# Altium footprint library pir.PcbLib: 22 footprints (part 1 of 2)
Each footprint in its own frame and in the unit in brackets; x right, y up, seen from the top. Pads: shape width x height; smd on the part's side, far side on the other; paste and mask are expansions set on the pad; w line width, h text height; cw(c..) or ccw(c..) is an arc to the next point about the centre after c.
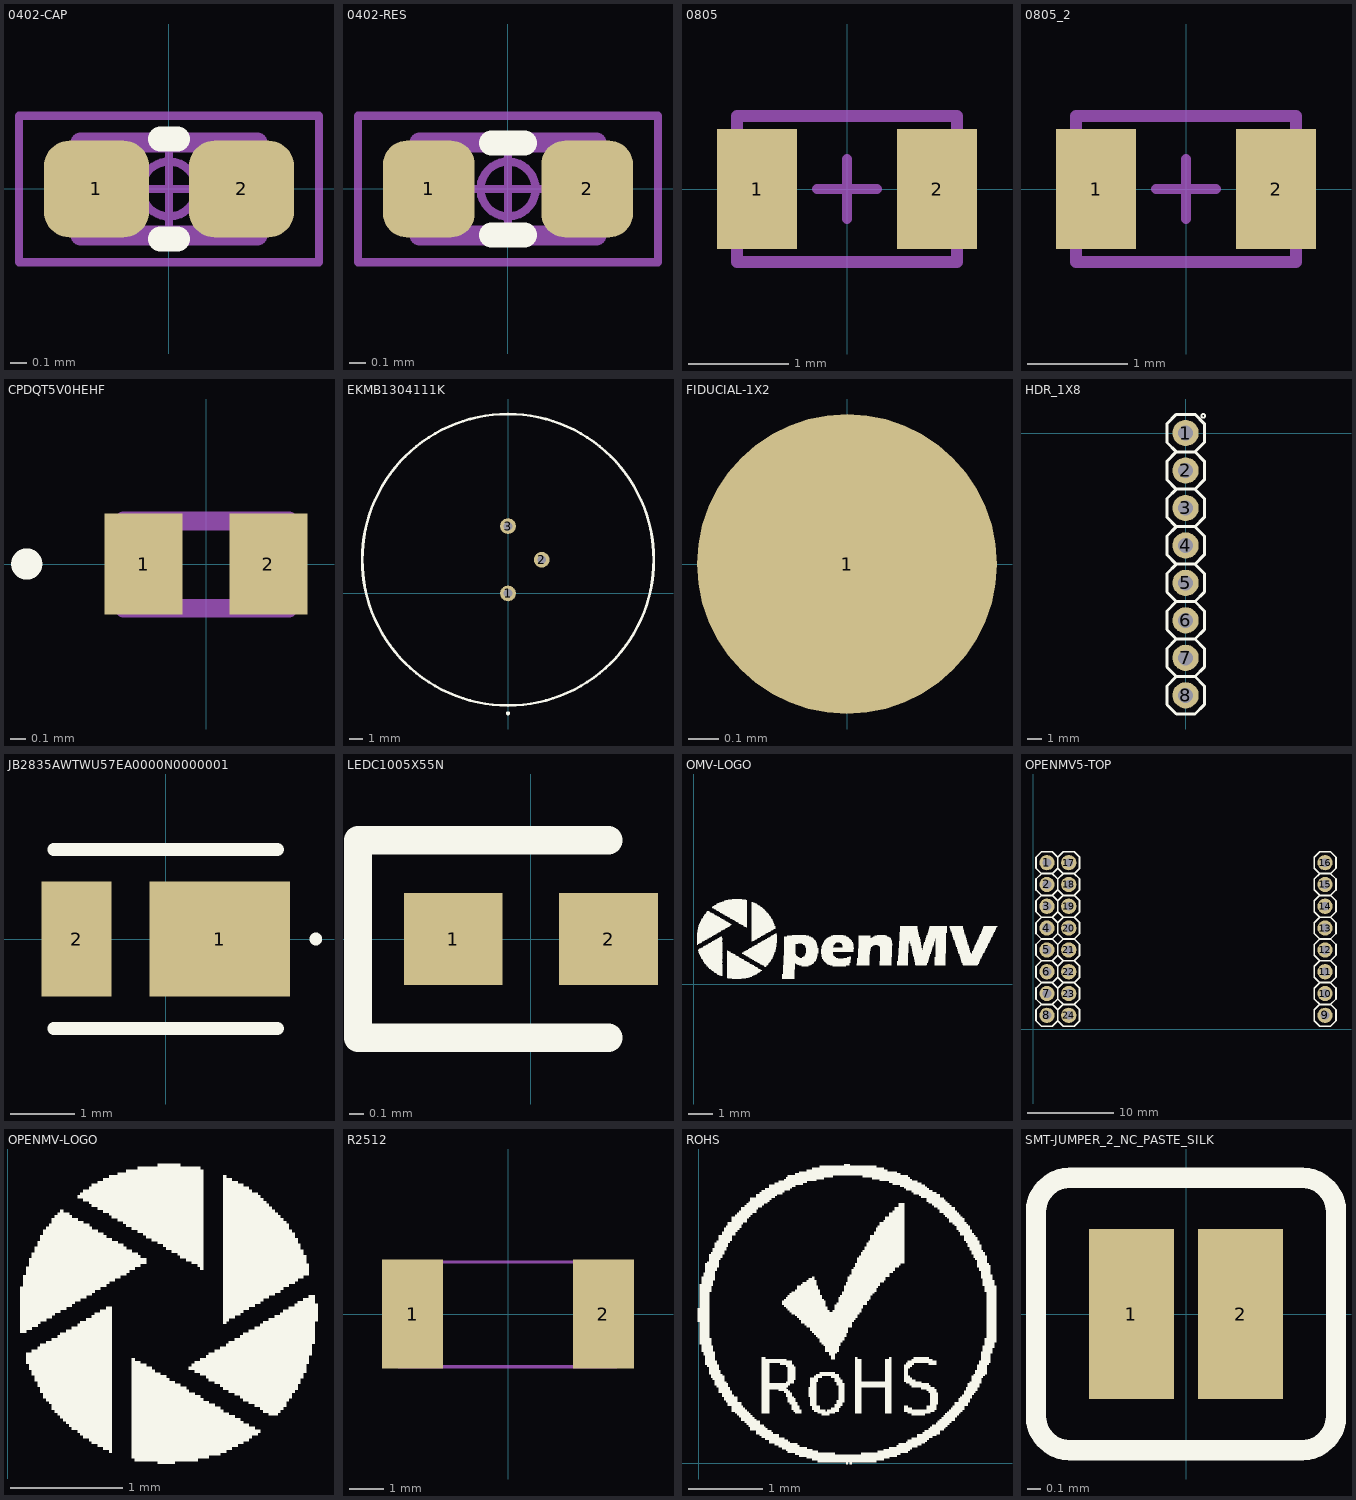
[diagram p0: the footprints below, top view; thin cyan lines are the x and y axes]

## 0402-CAP [mm] "Chip Capacitor, 2-Leads, Body  0402 (in) 1005 (mm), IPC Medium Density"
height 0.5
pads (2):
  rrect52% 0.63x0.58 smd mask+0.05: 1(-0.435,0) 2(0.435,0)
Top Overlay:
  lines w0.15: -0.05,-0.3 0.05,-0.3 ; -0.05,0.3 0.05,0.3
Mechanical 13:
  lines w0.12: -0.53,-0.28 0.53,-0.28 0.53,0.28 -0.53,0.28 -0.53,-0.28
  text ".designator" at -0.432,-0.178 h0.3
Mechanical 15:
  circle w0.05: c0,0 r0.165
  lines w0.05: -0.22,0 0.22,0 ; 0,-0.22 0,0.22 ; -0.9,-0.44 0.9,-0.44 0.9,0.44 -0.9,0.44 -0.9,-0.44
3D body "CAP-0402.stp": height 0.5, standoff 0, extent -0.5,-0.25 0.5,0.25

## 0402-RES [mm] "Chip Resistor, 2-Leads, Body  0402 (in) 1005 (mm), IPC Medium Density"
height 0.5
pads (2):
  rrect51% 0.55x0.58 smd mask+0.05: 1(-0.475,0) 2(0.475,0)
Top Overlay:
  lines w0.15: -0.1,-0.275 0.1,-0.275 ; -0.1,0.275 0.1,0.275
Mechanical 13:
  lines w0.12: -0.53,-0.28 0.53,-0.28 0.53,0.28 -0.53,0.28 -0.53,-0.28
  text ".designator" at -0.432,-0.152 h0.3
Mechanical 15:
  circle w0.05: c0,0 r0.165
  lines w0.05: -0.22,0 0.22,0 ; 0,-0.22 0,0.22 ; -0.9,-0.44 0.9,-0.44 0.9,0.44 -0.9,0.44 -0.9,-0.44
3D body "RES-0402.stp": height 0.34, standoff 0, extent -0.5,-0.25 0.5,0.25

## 0805 [mil] "0805"
pads (2):
  rect 31.5x47.24 smd: 1(-35.43,0) 2(35.43,0)
Mechanical 13:
  lines w3.94: -11.81,0 0,0 ; 0,-11.81 0,0 ; 0,11.81 0,0 ; 11.81,0 0,0
  lines w4.72: -43.31,-28.74 43.31,-28.74 43.31,28.74 -43.31,28.74 -43.31,-28.74
  text ".designator" at -39.36,-24.6 h11.81
3D body "CAP-0805.stp": height 49.21, standoff 0, extent -39.36,-24.6 39.38,24.61

## 0805_2 [mil]
pads (2):
  rect 31.5x47.24 smd: 1(-35.43,0) 2(35.43,0)
Mechanical 13:
  lines w3.94: -11.81,0 0,0 ; 0,-11.81 0,0 ; 0,11.81 0,0 ; 11.81,0 0,0
  lines w4.72: -43.31,-28.74 -43.31,28.74 43.31,28.74 43.31,-28.74 -43.31,-28.74
  text ".designator" at -39.36,-24.6 h11.81
3D body "CAP-0805.stp": height 49.21, standoff 0, extent -39.36,-24.6 39.38,24.61

## CPDQT5V0HEHF [mm] "CPDQT5V0HEHF"
pads (2):
  rect 0.5x0.65 smd: 1(-0.4,0) 2(0.4,0)
Top Overlay:
  lines w0.1: -1.2,0 ccw(c-1.15,0) -1.1,0 ccw(c-1.15,0) -1.2,0
Mechanical 13:
  lines w0.12: -0.529,-0.284 0.531,-0.284 0.531,0.276 -0.529,0.276 -0.529,-0.284
  text ".designator" at -0.43,-0.157 h0.3
3D body "RES-0402.stp": height 0.34, standoff 0, extent -0.498,-0.254 0.502,0.246

## EKMB1304111K [mm] "EKMB1304111K"
pads (3):
  round 1.192 hole 0.65: 1(0,0) 2(2.54,2.54) 3(0,5.08)
Top Overlay:
  lines w0.2: 0,-9.1 cw(c0,-9.05) 0,-9 ; 0,-9.1 ccw(c0,-9.05) 0,-9 ; 0,-9.1 cw(c0,-9.05) 0,-9 ; -11,2.54 ccw(c0,2.54) 11,2.54 ccw(c0,2.54) -11,2.54
3D body "motion_sensor.STEP": height 10.9, standoff -2, extent -5.5,-2.96 5.5,8.04

## FIDUCIAL-1X2 [mm] "FIDUCIAL-1X2"
pads (1):
  rrect100% 1x1 smd paste+0: 1(0,0)

## HDR_1X8 [mil]
pads (8):
  round 70 hole 40: 1(0,0) 2(0,-100) 3(0,-200) 4(0,-300) 5(0,-400) 6(0,-500) 7(0,-600) 8(0,-700)
Top Overlay:
  circle w5: c46.99,45.8 r5
  lines w8: -25,-650 -50,-625 -50,-575 -25,-550 ; -25,-650 -50,-675 -50,-725 -25,-750 25,-750 50,-725 50,-675 25,-650 ; -25,-650 25,-650 ; -25,-550 -50,-525 -50,-475 -25,-450 ; -25,-550 25,-550 ; -25,-450 -50,-425 -50,-375 -25,-350 ; -25,-450 25,-450 ; -25,-350 -50,-325 -50,-275 -25,-250 ; -25,-350 25,-350 ; -25,-250 -50,-225 -50,-175 -25,-150 ; -25,-250 25,-250 ; -25,-150 -50,-125 -50,-75 -25,-50 ; -25,-150 25,-150 ; -25,-50 -50,-25 -50,25 -25,50 25,50 50,25 50,-25 25,-50 ; -25,-50 25,-50 ; 25,-650 50,-625 50,-575 25,-550 ; 25,-550 50,-525 50,-475 25,-450 ; 25,-450 50,-425 50,-375 25,-350 ; 25,-350 50,-325 50,-275 25,-250 ; 25,-250 50,-225 50,-175 25,-150 ; 25,-150 50,-125 50,-75 25,-50
3D body "960240.STEP": height 334.65, standoff -412.98, extent -50,-750 50,50

## JB2835AWTWU57EA0000N0000001 [mil] "JB2835AWTWU57EA0000N0000001"
pads (2):
  rect 86.61x70.87 smd: 1(33.27,0)
  rect 43.31x70.87 smd: 2(-54.92,0)
Top Overlay:
  lines w3.94: 90.55,0 ccw(c92.52,0) 94.49,0 ccw(c92.52,0) 90.55,0
  lines w7.87: -68.9,-55.12 68.9,-55.12 ; -68.9,55.12 68.9,55.12
3D body: height 27.56, standoff 0, extent -68.9,-55.12 68.9,55.12

## LEDC1005X55N [mm] "LEDC1005X55N"
pads (2):
  rect 0.7x0.65 smd: 1(-0.55,0) 2(0.55,0)
Top Overlay:
  lines w0.2: 0.55,-0.7 -1.225,-0.7 -1.225,0.7 0.55,0.7
3D body: height 0.51, standoff 0, extent -0.508,-0.254 0.508,0.254

## OMV-LOGO [mil] "OMV-LOGO"
Top Overlay:
  drawing of 881 lines, arcs and shapes, not listed

## OPENMV5-TOP [mil] "OPENMV5-TOP"
pads (24):
  round 70 / inner round 0 / far side round 70 hole 40: 1(62.99,762.99) 2(62.99,662.99) 3(62.99,562.99) 4(62.99,462.99) 5(62.99,362.99) 6(62.99,262.99) 7(62.99,162.99) 8(62.99,62.99) 9(1338.58,62.99) 10(1338.58,162.99) 11(1338.58,262.99) 12(1338.58,362.99) 13(1338.58,462.99) 14(1338.58,562.99) 15(1338.58,662.99) 16(1338.58,762.99) 17(162.99,762.99) 18(162.99,662.99) 19(162.99,562.99) 20(162.99,462.99) 21(162.99,362.99) 22(162.99,262.99) 23(162.99,162.99) 24(162.99,62.99)
Top Overlay:
  drawing of 163 lines, arcs and shapes, not listed

## OPENMV-LOGO [mil] "OPENMV-LOGO"
Top Overlay:
  drawing of 262 lines, arcs and shapes, not listed

## R2512 [mil] "R2512"
pads (2):
  rect 70.87x125.98 smd: 1(-110.24,0) 2(110.24,0)
Mechanical 13:
  lines w3.94: -126,-61 125,-61 125,60.04 -126,60.04 -126,-61
  text ".designator" at -112,-32 h39.37
3D body "SMS-R2512.STEP": height 59.56, standoff 0.5, extent -125,-60.04 125,60.04

## ROHS [mil] "ROHS"
Top Overlay:
  drawing of 599 lines, arcs and shapes, not listed

## SMT-JUMPER_2_NC_PASTE_SILK [mil] "SMT-JUMPER_2_NC_PASTE_SILK"
pads (2):
  rect 25x50 smd paste+0: 1(-16,0) 2(16,0)
Top Overlay:
  lines w6: -44,-30 ccw(c-34,-30) -34,-40 34,-40 ccw(c34,-30) 44,-30 44,30 ccw(c34,30) 34,40 -34,40 ccw(c-34,30) -44,30 -44,-30